# Altium footprint library NIXIEClock_151223.PcbLib: 34 footprints (part 2 of 3)
Each footprint in its own frame and in the unit in brackets; x right, y up, seen from the top. Pads: shape width x height; smd on the part's side, far side on the other; paste and mask are expansions set on the pad; w line width, h text height; cw(c..) or ccw(c..) is an arc to the next point about the centre after c.
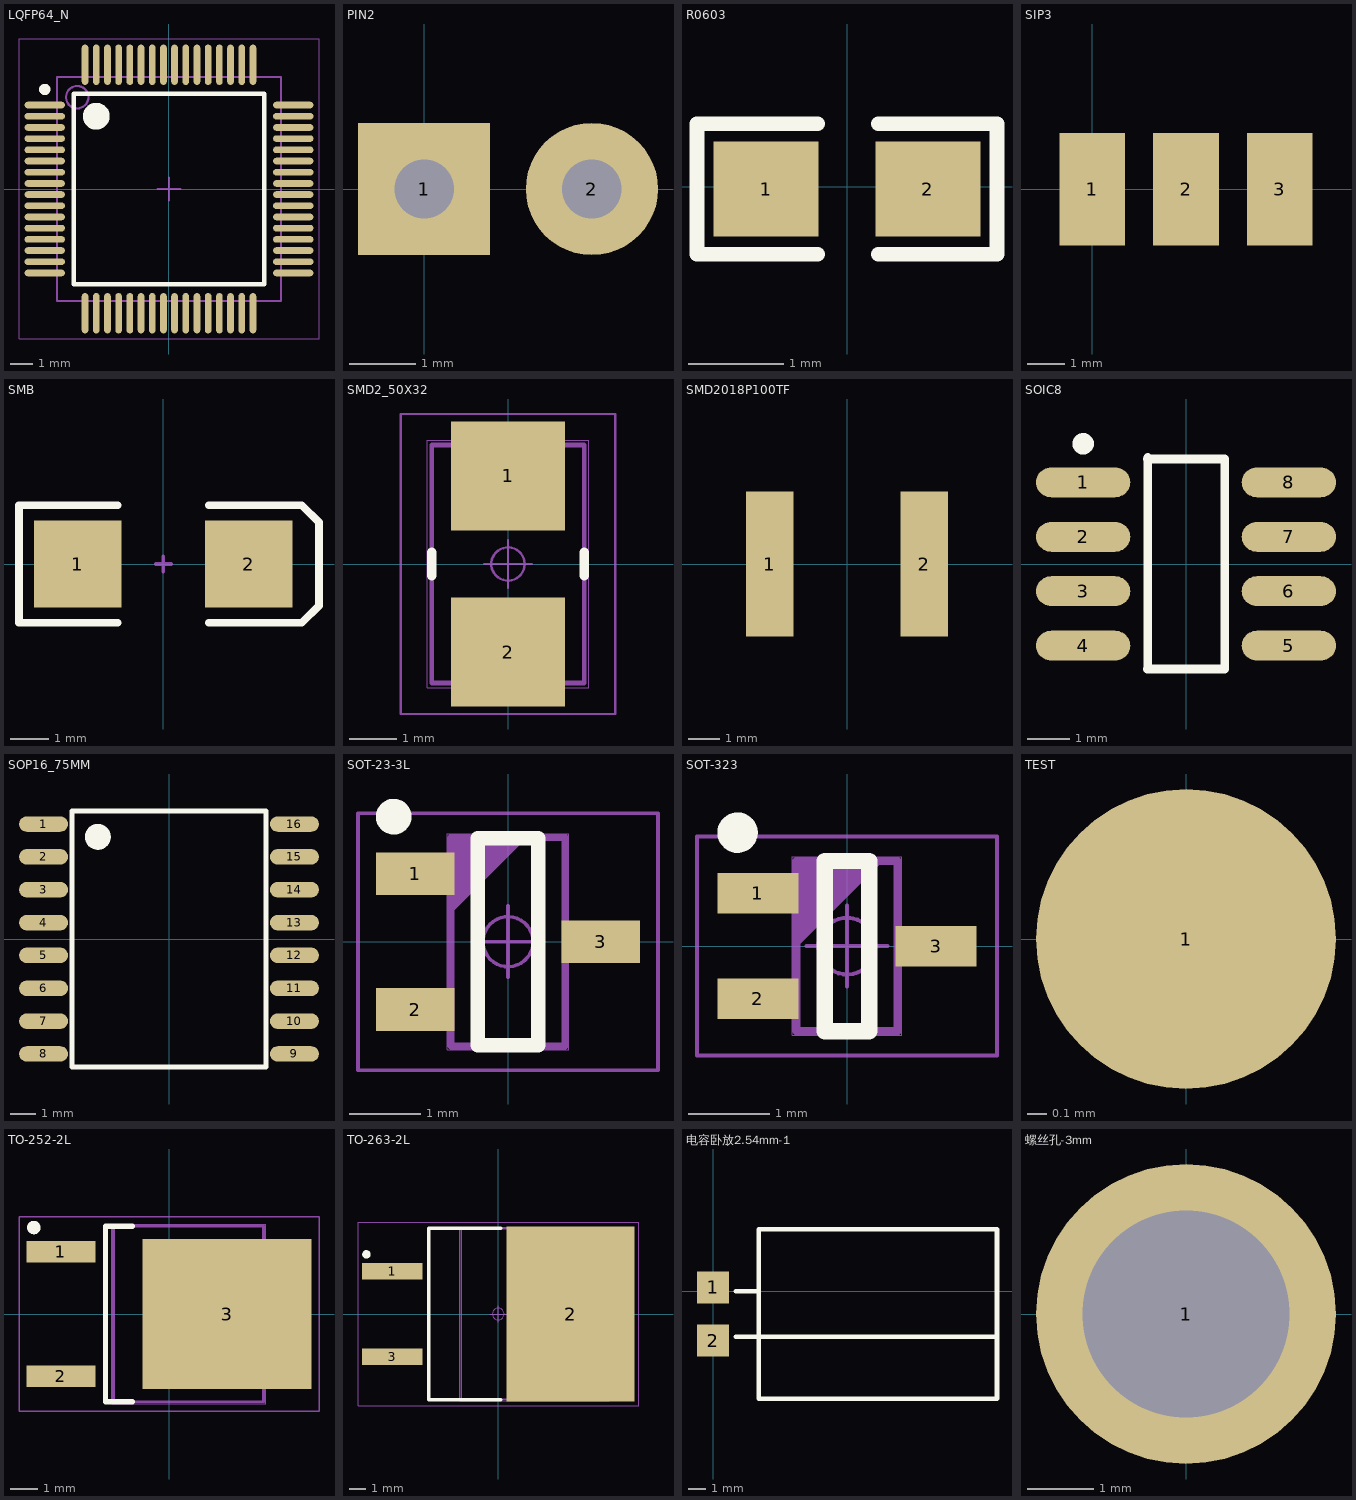
[diagram p1: the footprints below, top view; thin cyan lines are the x and y axes]

## LQFP64_N [mm] "Thin QFP, 64-Leads, Body 10x10mm, Pitch 0.5mm, IPC Medium Density"
height 1.6
pads (64):
  oval 1.8x0.3 smd: 1(-5.55,3.75) 2(-5.55,3.25) 3(-5.55,2.75) 4(-5.55,2.25) 5(-5.55,1.75) 6(-5.55,1.25) 7(-5.55,0.75) 8(-5.55,0.25) 9(-5.55,-0.25) 10(-5.55,-0.75) 11(-5.55,-1.25) 12(-5.55,-1.75) 13(-5.55,-2.25) 14(-5.55,-2.75) 15(-5.55,-3.25) 16(-5.55,-3.75) 33(5.55,-3.75) 34(5.55,-3.25) 35(5.55,-2.75) 36(5.55,-2.25) 37(5.55,-1.75) 38(5.55,-1.25) 39(5.55,-0.75) 40(5.55,-0.25) 41(5.55,0.25) 42(5.55,0.75) 43(5.55,1.25) 44(5.55,1.75) 45(5.55,2.25) 46(5.55,2.75) 47(5.55,3.25) 48(5.55,3.75)
  oval 0.3x1.8 smd: 17(-3.75,-5.55) 18(-3.25,-5.55) 19(-2.75,-5.55) 20(-2.25,-5.55) 21(-1.75,-5.55) 22(-1.25,-5.55) 23(-0.75,-5.55) 24(-0.25,-5.55) 25(0.25,-5.55) 26(0.75,-5.55) 27(1.25,-5.55) 28(1.75,-5.55) 29(2.25,-5.55) 30(2.75,-5.55) 31(3.25,-5.55) 32(3.75,-5.55) 49(3.75,5.55) 50(3.25,5.55) 51(2.75,5.55) 52(2.25,5.55) 53(1.75,5.55) 54(1.25,5.55) 55(0.75,5.55) 56(0.25,5.55) 57(-0.25,5.55) 58(-0.75,5.55) 59(-1.25,5.55) 60(-1.75,5.55) 61(-2.25,5.55) 62(-2.75,5.55) 63(-3.25,5.55) 64(-3.75,5.55)
Top Overlay:
  circle w0.6: c-3.25,3.25 r0.3
  circle w0.25: c-5.55,4.45 r0.125
  lines w0.2: -4.25,-4.25 4.25,-4.25 4.25,4.25 -4.25,4.25 -4.25,-4.25
Mechanical 13:
  circle w0.1: c-4.1,4.1 r0.5
  lines w0.1: -5,-5 5,-5 5,5 -5,5 -5,-5
Mechanical 15:
  lines w0.05: -6.7,-6.7 6.7,-6.7 6.7,6.7 -6.7,6.7 -6.7,-6.7
  lines w0.1: -0.5,0 0.5,0 ; 0,-0.5 0,0.5
3D body: height 1.6, standoff 0, extent -5,-5 5,5

## PIN2 [mm] "Photosensitive Diode; 2 Leads"
pads (2):
  rect 2x2 hole 0.9: 1(0,0)
  round 2 hole 0.9: 2(2.54,0)

## R0603 [mm] "Chip Resistor; Body 1.6 x 0.8 mm (LxW typ)"
height 0.6
pads (2):
  rect 1.1x1 smd: 1(-0.85,-0.025) 2(0.85,-0.025)
Top Overlay:
  lines w0.152: -0.305,-0.711 -1.575,-0.711 -1.575,0.66 -0.305,0.66 ; 0.33,-0.711 1.575,-0.711 1.575,0.66 0.33,0.66

## SIP3 [mil]
pads (3):
  rect 70x120 smd: 1(0,0) 2(100,0) 3(200,0)

## SMB [mm] "DO-214-AA/SMB; 2 C-Bend Leads; Body 5.3 x 3.6 mm, inc. leads (LxW)"
height 2.54
pads (2):
  rect 2.3x2.3 smd: 1(-2.25,0) 2(2.25,0)
Top Overlay:
  lines w0.2: -1.2,-1.55 -3.8,-1.55 -3.8,1.55 -1.2,1.55 ; 1.2,-1.55 3.65,-1.55 4.1,-1.1 4.1,1.1 3.65,1.55 1.2,1.55
Mechanical 1:
  lines w0.1: -0.2,0 0.2,0 ; 0,-0.2 0,0.2

## SMD2_50X32 [mm]
pads (2):
  rect 2.4x2.286 smd: 1(0,1.85) 2(0,-1.85)
Top Overlay:
  lines w0.2: -1.6,-0.25 -1.6,0.25 ; 1.6,-0.25 1.6,0.25
Mechanical 15:
  circle w0.1: c-0.6,1.5 r0.5
  lines w0.1: -1.6,-2.5 1.6,-2.5 1.6,2.5 -1.6,2.5 -1.6,-2.5
Mechanical 16:
  circle w0.05: c0,0 r0.35
  lines w0.001: -1.7,-2.6 1.7,-2.6 1.7,2.6 -1.7,2.6 -1.7,-2.6
  lines w0.05: -0.5,0 0.5,0 ; 0,-0.5 0,0.5 ; -2.25,-3.15 2.25,-3.15 2.25,3.15 -2.25,3.15 -2.25,-3.15

## SMD2018P100TF [mm]
pads (2):
  rect 1.5x4.6 smd: 1(-2.45,0) 2(2.45,0)

## SOIC8 [mm]
height 1.55
pads (8):
  oval 2.2x0.7 smd: 1(-2.4,1.905) 2(-2.4,0.635) 3(-2.4,-0.635) 4(-2.4,-1.905) 5(2.4,-1.905) 6(2.4,-0.635) 7(2.4,0.635) 8(2.4,1.905)
Top Overlay:
  circle w0.25: c-2.4,2.805 r0.125
  lines w0.2: -0.9,-2.45 0.9,-2.45 0.9,2.45 -0.9,2.45 ; -0.889,-2.413 -0.889,2.487

## SOP16_75MM [mm]
height 1.55
pads (16):
  oval 1.9x0.6 smd: 1(-4.85,4.445) 2(-4.85,3.175) 3(-4.85,1.905) 4(-4.85,0.635) 5(-4.85,-0.635) 6(-4.85,-1.905) 7(-4.85,-3.175) 8(-4.85,-4.445) 9(4.85,-4.445) 10(4.85,-3.175) 11(4.85,-1.905) 12(4.85,-0.635) 13(4.85,0.635) 14(4.85,1.905) 15(4.85,3.175) 16(4.85,4.445)
Top Overlay:
  circle w0.5: c-2.75,3.95 r0.25
  lines w0.2: -3.75,-4.95 3.75,-4.95 3.75,4.95 -3.75,4.95 -3.75,-4.95

## SOT-23-3L [mm]
pads (3):
  rect 1.1x0.6 smd: 1(-1.3,0.95) 2(-1.3,-0.95) 3(1.3,0)
Top Overlay:
  circle w0.25: c-1.6,1.75 r0.125
  lines w0.2: -0.425,-1.45 -0.425,1.45 0.425,1.45 0.425,-1.45 -0.425,-1.45
Mechanical 1:
  lines w0.1: -0.8,0.46 0.2,1.46 ; -0.8,0.56 0.1,1.46 ; -0.8,0.66 0,1.46 ; -0.8,0.76 -0.1,1.46 ; -0.8,0.86 -0.2,1.46 ; -0.8,0.96 -0.3,1.46 ; -0.8,1.06 -0.4,1.46 ; -0.8,1.16 -0.5,1.46 ; -0.8,1.26 -0.6,1.46 ; -0.8,1.36 -0.7,1.46 ; -0.8,-1.46 -0.8,1.46 0.8,1.46 0.8,-1.46 -0.8,-1.46
  text "U1" at 0.36,-0.414 h0.6
Mechanical 16:
  circle w0.05: c0,0 r0.35
  lines w0.001: -0.85,-1.51 -0.85,1.51 0.85,1.51 0.85,-1.51 -0.85,-1.51
  lines w0.05: -0.5,0 0.5,0 ; 0,-0.5 0,0.5 ; -2.1,-1.8 -2.1,1.8 2.1,1.8 2.1,-1.8 -2.1,-1.8

## SOT-323 [mm]
pads (3):
  rect 1x0.5 smd: 1(-1.1,0.65) 2(-1.1,-0.65) 3(1.1,0)
Top Overlay:
  circle w0.25: c-1.35,1.4 r0.125
  lines w0.2: -0.275,-1.05 -0.275,1.05 0.275,1.05 0.275,-1.05 -0.275,-1.05
Mechanical 15:
  lines w0.1: -0.625,0.05 0.375,1.05 ; -0.625,0.15 0.275,1.05 ; -0.625,0.25 0.175,1.05 ; -0.625,0.35 0.075,1.05 ; -0.625,0.45 -0.025,1.05 ; -0.625,0.55 -0.125,1.05 ; -0.625,0.65 -0.225,1.05 ; -0.625,0.75 -0.325,1.05 ; -0.625,0.85 -0.425,1.05 ; -0.625,0.95 -0.525,1.05 ; -0.625,-1.05 -0.625,1.05 0.625,1.05 0.625,-1.05 -0.625,-1.05
  text "1" at 0.45,-0.164 h0.75
Mechanical 16:
  circle w0.05: c0,0 r0.35
  lines w0.001: -0.675,-1.1 -0.675,1.1 0.675,1.1 0.675,-1.1 -0.675,-1.1
  lines w0.05: -0.5,0 0.5,0 ; 0,-0.5 0,0.5 ; -1.85,-1.35 -1.85,1.35 1.85,1.35 1.85,-1.35 -1.85,-1.35

## TEST [mil]
height 53.15
pads (1):
  round 60 smd: 1(0,0)

## TO-252-2L [mm]
pads (3):
  rect 2.55x0.8 smd: 1(-4,2.3) 2(-4,-2.3)
  rect 6.25x5.55 smd: 3(2.15,0)
Top Overlay:
  circle w0.25: c-5,3.2 r0.125
  lines w0.2: -1.35,-3.25 -2.35,-3.25 -2.35,3.25 -1.35,3.25
Mechanical 15:
  lines w0.1: 3.5,-2.668 3.946,-2.668 4.85,-1.666 4.85,1.666 3.946,2.668 3.5,2.668 ; -2.05,-3.25 -2.05,3.25 3.5,3.25 3.5,-3.25 -2.05,-3.25
Mechanical 16:
  circle w0.05: c0,0 r0.35
  lines w0.001: -2.125,-3.325 -2.125,3.325 3.575,3.325 3.575,-3.325 -2.125,-3.325
  lines w0.05: -0.5,0 0.5,0 ; 0,-0.5 0,0.5 ; -5.55,-3.6 -5.55,3.6 5.55,3.6 5.55,-3.6 -5.55,-3.6

## TO-263-2L [mm]
height 1.4
pads (3):
  rect 3.6x1 smd: 1(-6.3,2.54) 3(-6.3,-2.54)
  rect 7.6x10.4 smd: 2(4.3,0)
Top Overlay:
  circle w0.25: c-7.85,3.55 r0.125
  lines w0.2: 0.15,-5.1 -4.15,-5.1 -4.15,5.1 0.15,5.1
Mechanical 15:
  lines w0.1: 6.49,-5.08 6.86,-5.08 7.61,-4.249 7.61,4.249 6.86,5.08 6.49,5.08 ; 6.49,-5.08 6.49,5.08 ; 6.49,-5.08 -2.21,-5.08 -2.21,5.08 6.49,5.08
Mechanical 16:
  circle w0.05: c0,0 r0.35
  lines w0.001: -2.31,-5.155 -2.31,5.155 6.59,5.155 6.59,-5.155 -2.31,-5.155
  lines w0.05: -0.5,0 0.5,0 ; 0,-0.5 0,0.5 ; -8.35,-5.45 -8.35,5.45 8.35,5.45 8.35,-5.45 -8.35,-5.45

## 电容卧放2.54mm-1 [mil] "11.6mmX5.3mm"
pads (2):
  rect 70x70 smd: 1(0,8) 2(0,-108)
Top Overlay:
  lines w10: 50,-100 620,-100 ; 50,0 100,0 ; 100,-235 621.25,-235 621.25,135 100,135 100,-235

## 螺丝孔-3mm [mm]
pads (1):
  round 4.5 hole 3.1: 1(0,0)